# Altium footprint library Audio-Power-amlifier.PCBLIB: 50 footprints (part 4 of 4)
Each footprint in its own frame and in the unit in brackets; x right, y up, seen from the top. Pads: shape width x height; smd on the part's side, far side on the other; paste and mask are expansions set on the pad; w line width, h text height; cw(c..) or ccw(c..) is an arc to the next point about the centre after c.
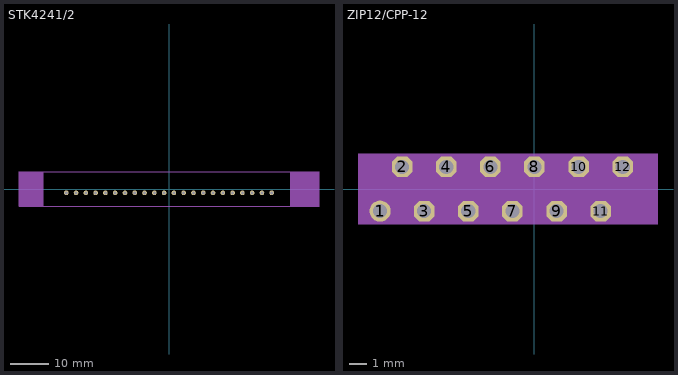
[diagram p3: the footprints below, top view; thin cyan lines are the x and y axes]

## STK4241/2 [mil]
pads (22):
  round 47.25 / inner round 60 / far side round 47.25 hole 31.5: P$1(-1050,-39.37) P$2(-950,-39.37) P$3(-850,-39.37) P$4(-750,-39.37) P$5(-650,-39.37) P$6(-550,-39.37) P$7(-450,-39.37) P$8(-350,-39.37) P$9(-250,-39.37) P$10(-150,-39.37) P$11(-50,-39.37) P$12(50,-39.37) P$13(150,-39.37) P$14(250,-39.37) P$15(350,-39.37) P$16(450,-39.37) P$17(550,-39.37) P$18(650,-39.37) P$19(750,-39.37) P$20(850,-39.37) P$21(950,-39.37) P$22(1050,-39.37)
Mechanical 22:
  region: 1247.64,-175.98 1247.64,175.59 1531.1,175.59 1531.1,-175.98
  region: -1531.1,-175.59 -1531.1,175.59 -1285.43,175.59 -1285.43,-175.59
  lines w5: -1284.65,-175.2 -1284.65,175.2 ; 787.4,177.17 -1533.07,177.17 -1533.07,-177.17 1533.07,-177.17 1533.07,177.95 ; 787.8,177.17 1533.07,177.17 ; 1245.28,-174.41 1245.28,176.38

## ZIP12/CPP-12 [mil]
pads (12):
  round 48 / inner round 60 / far side round 48 hole 32: 1(-350,-50)
  oct 46.48x46.48 / inner oct 60x60 / far side oct 46.48x46.48 hole 32: 2(-300,50) 3(-250,-50) 4(-200,50) 5(-150,-50) 6(-100,50) 7(-50,-50) 8(0,50) 9(50,-50) 10(100,50) 11(150,-50) 12(200,50)
Mechanical 8:
  circle w6: c-350,-30 r10
  lines w6: -390,-25 -360,-55 -325,-55 ; -335,55 -325,55 ; -315,-55 -325,-55 ; -285,-55 -215,-55 ; -265,55 -325,55 ; -235,55 -165,55 ; -185,-55 -115,-55 ; -135,55 -65,55 ; -85,-55 -15,-55 ; -35,55 35,55 ; 15,-55 85,-55 ; 65,55 135,55 ; 115,-55 185,-55 ; 165,55 240,55 270,25 -325,25 ; 270,-25 -325,-25 ; -325,-55 -325,-25 ; -325,-25 -325,25 ; -325,25 -325,55
Mechanical 22:
  lines w6: -390,-25 -390,25 -360,55 -335,55 ; -315,-55 -285,-55 ; -265,55 -235,55 ; -215,-55 -185,-55 ; -165,55 -135,55 ; -115,-55 -85,-55 ; -65,55 -35,55 ; -15,-55 15,-55 ; 35,55 65,55 ; 85,-55 115,-55 ; 135,55 165,55 ; 185,-55 240,-55 270,-25 270,25
Mechanical 30:
  region: -400,-80 -400,80 280,80 280,-80